# Altium schematic symbol library STM32.SchLib: 3 symbols
Pins are listed as number, name and electrical type; pins without a type are passive.

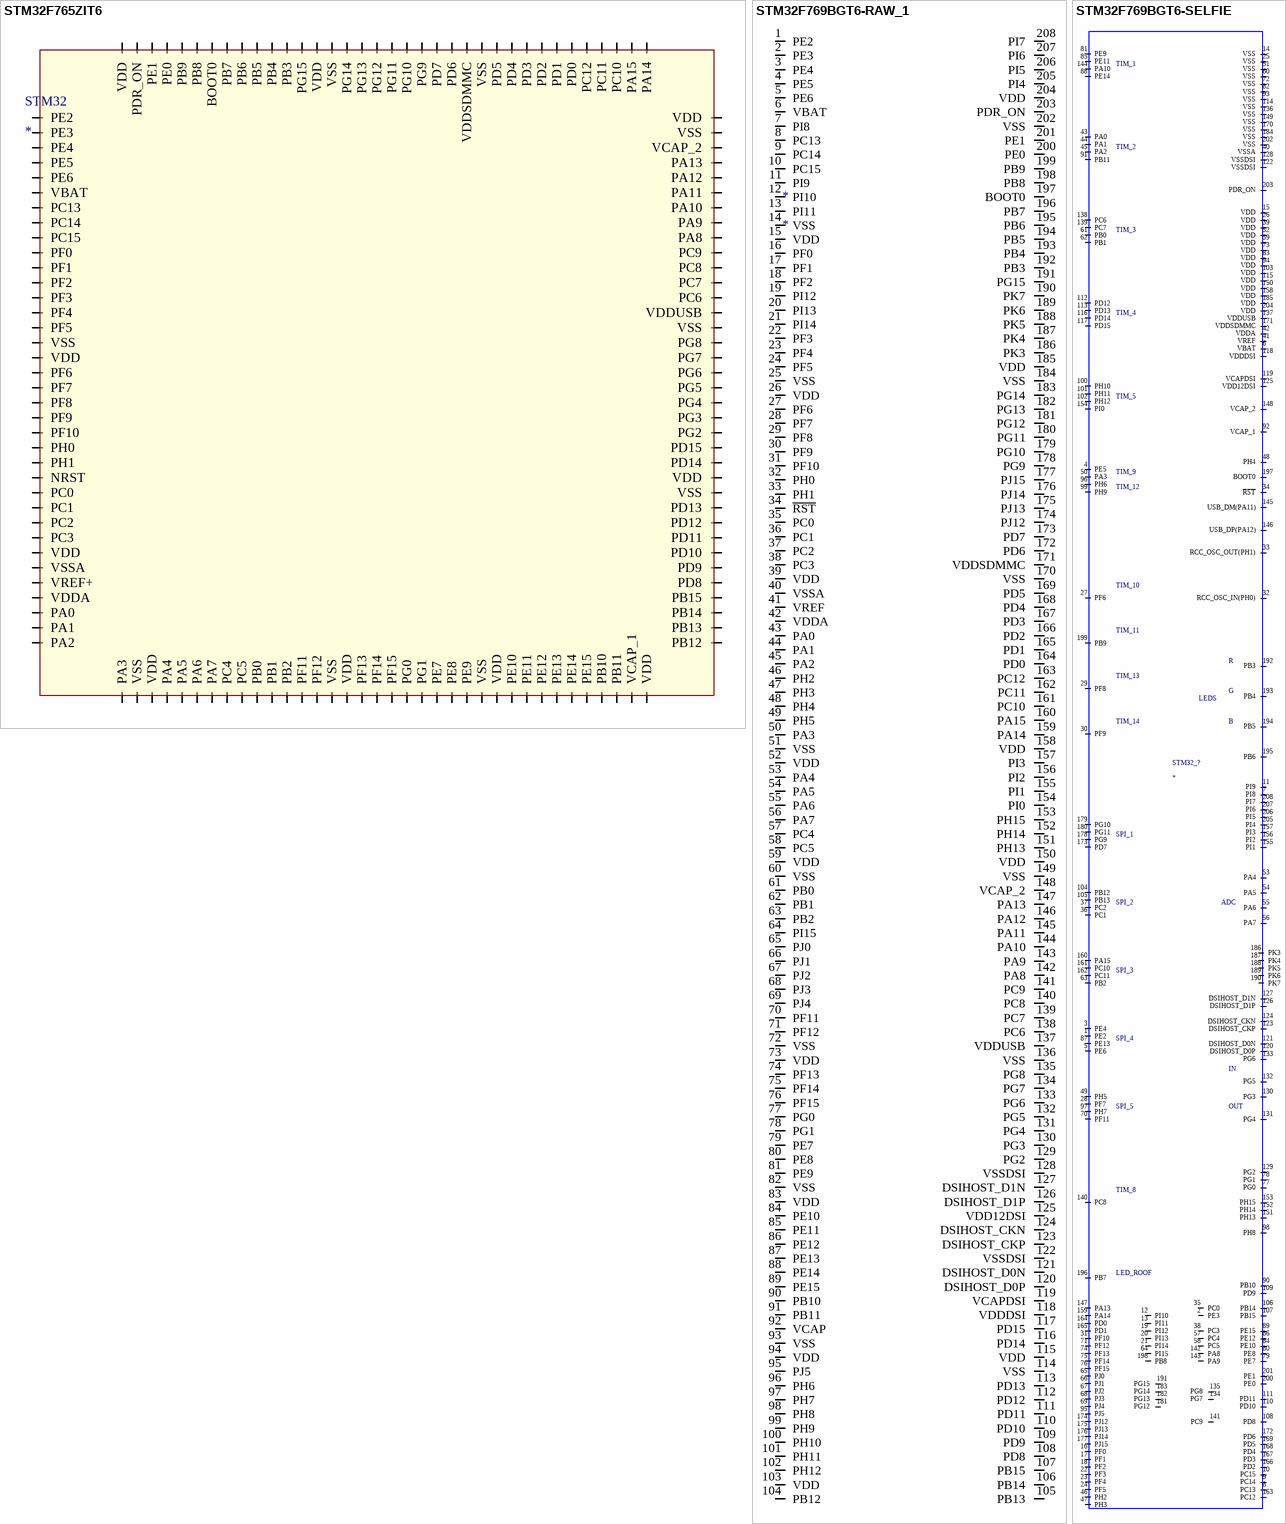
[diagram p0: symbols STM32F765ZIT6 to STM32F769BGT6-SELFIE]

## STM32F765ZIT6
designator STM32
footprint LQFP144
pins: 1 PE2, 2 PE3, 3 PE4, 4 PE5, 5 PE6, 6 VBAT, 7 PC13, 8 PC14, 9 PC15, 10 PF0, 11 PF1, 12 PF2, 13 PF3, 14 PF4, 15 PF5, 16 VSS, 17 VDD, 18 PF6, 19 PF7, 20 PF8, 21 PF9, 22 PF10, 23 PH0, 24 PH1, 25 NRST, 26 PC0, 27 PC1, 28 PC2, 29 PC3, 30 VDD, 31 VSSA, 32 VREF+, 33 VDDA, 34 PA0, 35 PA1, 36 PA2, 37 PA3, 38 VSS, 39 VDD, 40 PA4, 41 PA5, 42 PA6, 43 PA7, 44 PC4, 45 PC5, 46 PB0, 47 PB1, 48 PB2, 49 PF11, 50 PF12, 51 VSS, 52 VDD, 53 PF13, 54 PF14, 55 PF15, 56 PG0, 57 PG1, 58 PE7, 59 PE8, 60 PE9, 61 VSS, 62 VDD, 63 PE10, 64 PE11, 65 PE12, 66 PE13, 67 PE14, 68 PE15, 69 PB10, 70 PB11, 71 VCAP_1, 72 VDD, 73 PB12, 74 PB13, 75 PB14, 76 PB15, 77 PD8, 78 PD9, 79 PD10, 80 PD11, 81 PD12, 82 PD13, 83 VSS, 84 VDD, 85 PD14, 86 PD15, 87 PG2, 88 PG3, 89 PG4, 90 PG5, 91 PG6, 92 PG7, 93 PG8, 94 VSS, 95 VDDUSB, 96 PC6, 97 PC7, 98 PC8, 99 PC9, 100 PA8, 101 PA9, 102 PA10, 103 PA11, 104 PA12, 105 PA13, 106 VCAP_2, 107 VSS, 108 VDD, 109 PA14, 110 PA15, 111 PC10, 112 PC11, 113 PC12, 114 PD0, 115 PD1, 116 PD2, 117 PD3, 118 PD4, 119 PD5, 120 VSS, 121 VDDSDMMC, 122 PD6, 123 PD7, 124 PG9, 125 PG10, 126 PG11, 127 PG12, 128 PG13, 129 PG14, 130 VSS, 131 VDD, 132 PG15, 133 PB3, 134 PB4, 135 PB5, 136 PB6, 137 PB7, 138 BOOT0, 139 PB8, 140 PB9, 141 PE0, 142 PE1, 143 PDR_ON, 144 VDD

## STM32F769BGT6-RAW_1
designator *
pins: 1 PE2, 2 PE3, 3 PE4, 4 PE5, 5 PE6, 6 VBAT, 7 PI8, 8 PC13, 9 PC14, 10 PC15, 11 PI9, 12 PI10, 13 PI11, 14 VSS, 15 VDD, 16 PF0, 17 PF1, 18 PF2, 19 PI12, 20 PI13, 21 PI14, 22 PF3, 23 PF4, 24 PF5, 25 VSS, 26 VDD, 27 PF6, 28 PF7, 29 PF8, 30 PF9, 31 PF10, 32 PH0, 33 PH1, 34 ~{RST}, 35 PC0, 36 PC1, 37 PC2, 38 PC3, 39 VDD, 40 VSSA, 41 VREF, 42 VDDA, 43 PA0, 44 PA1, 45 PA2, 46 PH2, 47 PH3, 48 PH4, 49 PH5, 50 PA3, 51 VSS, 52 VDD, 53 PA4, 54 PA5, 55 PA6, 56 PA7, 57 PC4, 58 PC5, 59 VDD, 60 VSS, 61 PB0, 62 PB1, 63 PB2, 64 PI15, 65 PJ0, 66 PJ1, 67 PJ2, 68 PJ3, 69 PJ4, 70 PF11, 71 PF12, 72 VSS, 73 VDD, 74 PF13, 75 PF14, 76 PF15, 77 PG0, 78 PG1, 79 PE7, 80 PE8, 81 PE9, 82 VSS, 83 VDD, 84 PE10, 85 PE11, 86 PE12, 87 PE13, 88 PE14, 89 PE15, 90 PB10, 91 PB11, 92 VCAP, 93 VSS, 94 VDD, 95 PJ5, 96 PH6, 97 PH7, 98 PH8, 99 PH9, 100 PH10, 101 PH11, 102 PH12, 103 VDD, 104 PB12, 105 PB13, 106 PB14, 107 PB15, 108 PD8, 109 PD9, 110 PD10, 111 PD11, 112 PD12, 113 PD13, 114 VSS, 115 VDD, 116 PD14, 117 PD15, 118 VDDDSI, 119 VCAPDSI, 120 DSIHOST_D0P, 121 DSIHOST_D0N, 122 VSSDSI, 123 DSIHOST_CKP, 124 DSIHOST_CKN, 125 VDD12DSI, 126 DSIHOST_D1P, 127 DSIHOST_D1N, 128 VSSDSI, 129 PG2, 130 PG3, 131 PG4, 132 PG5, 133 PG6, 134 PG7, 135 PG8, 136 VSS, 137 VDDUSB, 138 PC6, 139 PC7, 140 PC8, 141 PC9, 142 PA8, 143 PA9, 144 PA10, 145 PA11, 146 PA12, 147 PA13, 148 VCAP_2, 149 VSS, 150 VDD, 151 PH13, 152 PH14, 153 PH15, 154 PI0, 155 PI1, 156 PI2, 157 PI3, 158 VDD, 159 PA14, 160 PA15, 161 PC10, 162 PC11, 163 PC12, 164 PD0, 165 PD1, 166 PD2, 167 PD3, 168 PD4, 169 PD5, 170 VSS, 171 VDDSDMMC, 172 PD6, 173 PD7, 174 PJ12, 175 PJ13, 176 PJ14, 177 PJ15, 178 PG9, 179 PG10, 180 PG11, 181 PG12, 182 PG13, 183 PG14, 184 VSS, 185 VDD, 186 PK3, 187 PK4, 188 PK5, 189 PK6, 190 PK7, 191 PG15, 192 PB3, 193 PB4, 194 PB5, 195 PB6, 196 PB7, 197 BOOT0, 198 PB8, 199 PB9, 200 PE0, 201 PE1, 202 VSS, 203 PDR_ON, 204 VDD, 205 PI4, 206 PI5, 207 PI6, 208 PI7

## STM32F769BGT6-SELFIE
designator STM32_?
footprint LQFP208
pins: 1 PE2, 2 PE3, 3 PE4, 4 PE5, 5 PE6, 6 VBAT, 7 PI8, 8 PC13, 9 PC14, 10 PC15, 11 PI9, 12 PI10, 13 PI11, 14 VSS, 15 VDD, 16 PF0, 17 PF1, 18 PF2, 19 PI12, 20 PI13, 21 PI14, 22 PF3, 23 PF4, 24 PF5, 25 VSS, 26 VDD, 27 PF6, 28 PF7, 29 PF8, 30 PF9, 31 PF10, 32 RCC_OSC_IN(PH0), 33 RCC_OSC_OUT(PH1), 34 ~{RST}, 35 PC0, 36 PC1, 37 PC2, 38 PC3, 39 VDD, 40 VSSA, 41 VREF, 42 VDDA, 43 PA0, 44 PA1, 45 PA2, 46 PH2, 47 PH3, 48 PH4, 49 PH5, 50 PA3, 51 VSS, 52 VDD, 53 PA4, 54 PA5, 55 PA6, 56 PA7, 57 PC4, 58 PC5, 59 VDD, 60 VSS, 61 PB0, 62 PB1, 63 PB2, 64 PI15, 65 PJ0, 66 PJ1, 67 PJ2, 68 PJ3, 69 PJ4, 70 PF11, 71 PF12, 72 VSS, 73 VDD, 74 PF13, 75 PF14, 76 PF15, 77 PG0, 78 PG1, 79 PE7, 80 PE8, 81 PE9, 82 VSS, 83 VDD, 84 PE10, 85 PE11, 86 PE12, 87 PE13, 88 PE14, 89 PE15, 90 PB10, 91 PB11, 92 VCAP_1, 93 VSS, 94 VDD, 95 PJ5, 96 PH6, 97 PH7, 98 PH8, 99 PH9, 100 PH10, 101 PH11, 102 PH12, 103 VDD, 104 PB12, 105 PB13, 106 PB14, 107 PB15, 108 PD8, 109 PD9, 110 PD10, 111 PD11, 112 PD12, 113 PD13, 114 VSS, 115 VDD, 116 PD14, 117 PD15, 118 VDDDSI, 119 VCAPDSI, 120 DSIHOST_D0P, 121 DSIHOST_D0N, 122 VSSDSI, 123 DSIHOST_CKP, 124 DSIHOST_CKN, 125 VDD12DSI, 126 DSIHOST_D1P, 127 DSIHOST_D1N, 128 VSSDSI, 129 PG2, 130 PG3, 131 PG4, 132 PG5, 133 PG6, 134 PG7, 135 PG8, 136 VSS, 137 VDDUSB, 138 PC6, 139 PC7, 140 PC8, 141 PC9, 142 PA8, 143 PA9, 144 PA10, 145 USB_DM(PA11), 146 USB_DP(PA12), 147 PA13, 148 VCAP_2, 149 VSS, 150 VDD, 151 PH13, 152 PH14, 153 PH15, 154 PI0, 155 PI1, 156 PI2, 157 PI3, 158 VDD, 159 PA14, 160 PA15, 161 PC10, 162 PC11, 163 PC12, 164 PD0, 165 PD1, 166 PD2, 167 PD3, 168 PD4, 169 PD5, 170 VSS, 171 VDDSDMMC, 172 PD6, 173 PD7, 174 PJ12, 175 PJ13, 176 PJ14, 177 PJ15, 178 PG9, 179 PG10, 180 PG11, 181 PG12, 182 PG13, 183 PG14, 184 VSS, 185 VDD, 186 PK3, 187 PK4, 188 PK5, 189 PK6, 190 PK7, 191 PG15, 192 PB3, 193 PB4, 194 PB5, 195 PB6, 196 PB7, 197 BOOT0, 198 PB8, 199 PB9, 200 PE0, 201 PE1, 202 VSS, 203 PDR_ON, 204 VDD, 205 PI4, 206 PI5, 207 PI6, 208 PI7
text: TIM_1; TIM_2; TIM_3; TIM_4; TIM_5; TIM_9; TIM_12; TIM_10; TIM_11; R; TIM_13; G; LEDS; TIM_14; B; SPI_1; SPI_2; ADC; SPI_3; SPI_4; IN; SPI_5; OUT; TIM_8; LED_ROOF